# Altium schematic symbol library CN HDR 2POS JST ZE.SchLib: 1 symbol
Pins are listed as number, name and electrical type; pins without a type are passive.

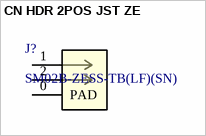
[diagram p0: symbol CN HDR 2POS JST ZE]

## CN HDR 2POS JST ZE
designator J?, comment SM02B-ZESS-TB(LF)(SN)
CONN HEADER SMD R/A 2POS 1.5MM; Mfr_Name: JST; Copyright: Copyright (C) 2023 Ultra Librarian. All rights reserved.; Manufacturer_Part_Number: SM02B-ZESS-TB; RefDes: RefDes; Type: DEV
footprint CONN_SM02B-ZESS-TB_JST
pins: 0 PAD, 1, 2